# Altium footprint library ultra_mini.PcbLib: 1 footprints
Each footprint in its own frame and in the unit in brackets; x right, y up, seen from the top. Pads: shape width x height; smd on the part's side, far side on the other; paste and mask are expansions set on the pad; w line width, h text height; cw(c..) or ccw(c..) is an arc to the next point about the centre after c.
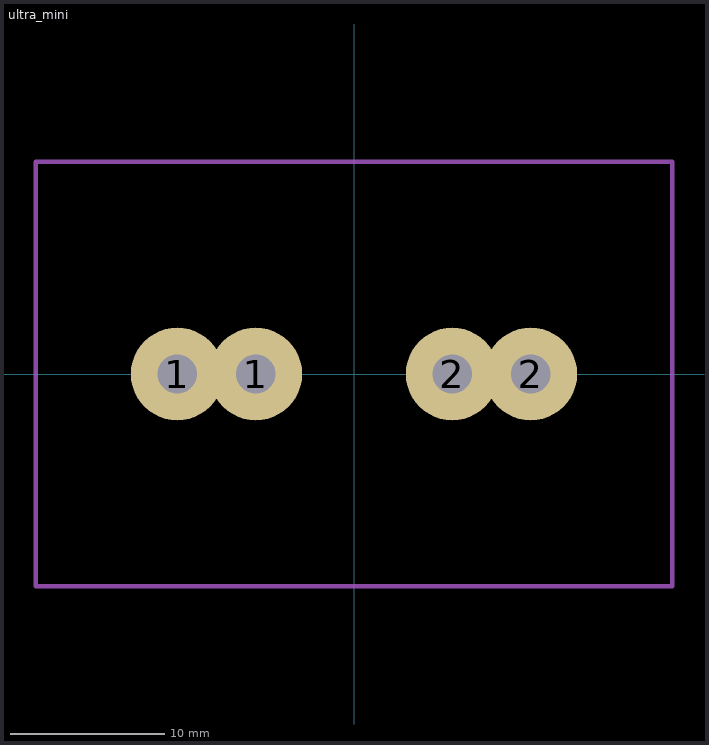
[diagram p0: the footprint, top view; thin cyan lines are the x and y axes]

## ultra_mini [mm]
pads (4):
  round 6 hole 2.54: 1(-11.43,0) 1(-6.35,0) 2(6.35,0) 2(11.43,0)
Mechanical 13:
  lines w0.3: -20.574,-13.716 -20.574,13.716 20.574,13.716 20.574,-13.716 -20.574,-13.716
  text ".Designator" at -9.077,-3.98 h2.5
3D body: height 7.1, standoff -4, extent -12.607,-1.789 -5.207,0.889
3D body: height 7.1, standoff -4, extent 5.3,-1.789 12.7,0.889
3D body: height 35.05, standoff 0.85, extent -20.575,-13.715 20.575,13.715